# Altium footprint library components.PcbLib: 6 footprints
Each footprint in its own frame and in the unit in brackets; x right, y up, seen from the top. Pads: shape width x height; smd on the part's side, far side on the other; paste and mask are expansions set on the pad; w line width, h text height; cw(c..) or ccw(c..) is an arc to the next point about the centre after c.
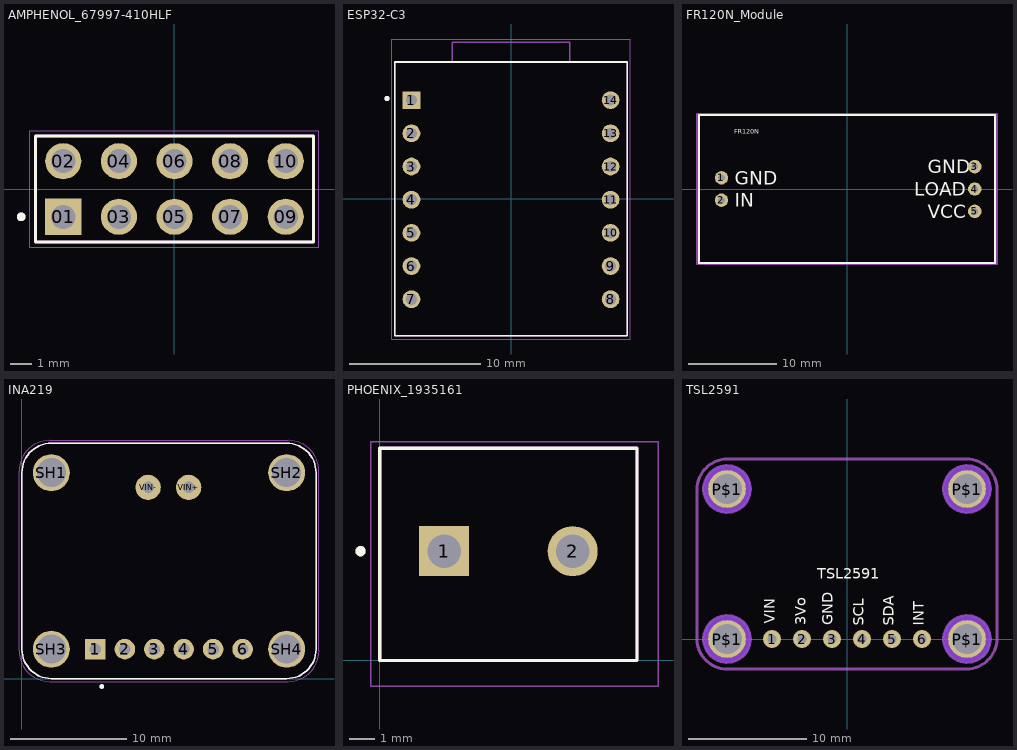
[diagram p0: the footprints below, top view; thin cyan lines are the x and y axes]

## AMPHENOL_67997-410HLF [mm]
pads (10):
  rect 1.65x1.65 hole 1.1: 01(-5.08,-1.27)
  round 1.65 hole 1.1: 02(-5.08,1.27) 03(-2.54,-1.27) 04(-2.54,1.27) 05(0,-1.27) 06(0,1.27) 07(2.54,-1.27) 08(2.54,1.27) 09(5.08,-1.27) 10(5.08,1.27)
Top Overlay:
  circle w0.2: c-7,-1.27 r0.1
  lines w0.127: -6.35,-2.415 -6.35,2.415 6.35,2.415 6.35,-2.415 -6.35,-2.415
Mechanical 13:
  circle w0.2: c-7,-1.27 r0.1
  lines w0.127: -6.35,-2.415 -6.35,2.415 ; -6.35,-2.415 6.35,-2.415 ; -6.35,-2.415 -6.35,2.415 ; -6.35,2.415 6.35,2.415 ; -6.35,2.415 6.35,2.415 ; 6.35,-2.415 6.35,2.415 ; 6.35,-2.415 6.35,2.415
Mechanical 15:
  lines w0.05: -6.6,-2.665 -6.6,2.665 6.6,2.665 6.6,-2.665 -6.6,-2.665
3D body "step_temp.STEP": height 8.38, standoff -3.05, extent -6.35,-2.415 6.35,2.415

## ESP32-C3 [mil]
pads (14):
  rect 53.46x53.46 hole 33.46: 1(-300,297.5)
  round 53.46 hole 33.46: 2(-300,197.5) 3(-300,97.5) 4(-300,-2.5) 5(-300,-102.5) 6(-300,-202.5) 7(-300,-302.5) 8(300,-302.5) 9(300,-202.5) 10(300,-102.5) 11(300,-2.5) 12(300,97.5) 13(300,197.5) 14(300,297.5)
Top Overlay:
  circle w7.87: c-374.02,302.5 r3.94
  lines w5: -350,-412.5 350,-412.5 350,412.5 -350,412.5 -350,-412.5
Mechanical 4:
  circle w7.87: c-374.02,302.5 r3.94
  circle w7.87: c-374.02,302.5 r3.94
  lines w5: -350,-412.5 350,-412.5 ; -350,-412.5 -350,412.5 ; -350,-412.5 350,-412.5 ; -350,-412.5 -350,412.5 ; -350,412.5 -177.17,412.5 ; -350,412.5 -177.17,412.5 ; -177.17,412.5 -177.17,471.95 ; -177.17,412.5 177.17,412.5 ; -177.17,412.5 -177.17,471.95 ; -177.17,412.5 177.17,412.5 ; -177.17,471.95 177.17,471.95 ; -177.17,471.95 177.17,471.95 ; 177.17,412.5 177.17,471.95 ; 177.17,412.5 350,412.5 ; 177.17,412.5 177.17,471.95 ; 177.17,412.5 350,412.5 ; 350,-412.5 350,412.5 ; 350,-412.5 350,412.5
Mechanical 16:
  lines w1.97: -359.84,-422.34 359.84,-422.34 359.84,481.79 -359.84,481.79 -359.84,-422.34
3D body "ESP32-C3.STEP": height 165.75, standoff 0, extent -350,-472.5 350,411.87

## FR120N_Module [mil]
pads (5):
  round 60 hole 30: 1(-560,50) 2(-560,-50) 3(570,100) 4(570,0) 5(570,-100)
Top Overlay:
  lines w10: -660,-330 -660,330 660,330 660,-330 -660,-330
  text "FR120N" at -503.94,246.06 h20.63
  text "VCC" at 360,-130 h60
  text "LOAD" at 300,-30 h60
  text "GND" at 360,70 h60
  text "IN" at -500,-80 h60
  text "GND" at -500,20 h60
Mechanical 1:
  lines w10: -669.29,-334.65 -669.29,334.65 669.29,334.65 669.29,-334.65 -669.29,-334.65

## INA219 [mm]
pads (12):
  rect 1.778x1.778 / inner round 1.778 / far side rect 1.778x1.778 hole 1: 1(6.35,2.54)
  round 1.778 hole 1: 2(8.89,2.54) 3(11.43,2.54) 4(13.97,2.54) 5(16.51,2.54) 6(19.05,2.54)
  round 3.2 hole 2.5: SH1(2.54,17.78) SH2(22.86,17.78) SH3(2.54,2.54) SH4(22.86,2.54)
  round 2.184 hole 1: VIN+(14.4,16.51) VIN-(10.9,16.51)
Top Overlay:
  circle w0.2: c6.9,-0.68 r0.1
  lines w0.127: 0,2.54 ccw(c2.54,2.54) 2.54,0 22.86,0 ccw(c22.86,2.54) 25.4,2.54 25.4,17.78 ccw(c22.86,17.78) 22.86,20.32 2.54,20.32 ccw(c2.54,17.78) 0,17.78 0,2.54
Mechanical 13:
  circle w0.2: c6.9,-0.68 r0.1
  lines w0.127: 0,2.54 ccw(c2.54,2.54) 2.54,0 22.86,0 ccw(c22.86,2.54) 25.4,2.54 25.4,17.78 ccw(c22.86,17.78) 22.86,20.32 2.54,20.32 ccw(c2.54,17.78) 0,17.78 0,2.54
Mechanical 15:
  lines w0.05: -0.25,2.415 ccw(c2.415,2.415) 2.415,-0.25 22.985,-0.25 ccw(c22.985,2.415) 25.65,2.415 25.65,17.9 ccw(c22.98,17.9) 22.98,20.57 2.42,20.57 ccw(c2.42,17.9) -0.25,17.9 -0.25,2.415
3D body "step_temp.STEP": height 4.47, standoff -0.05, extent 0,0 25.4,20.32

## PHOENIX_1935161 [mm]
height 11.45
pads (2):
  rect 1.95x1.95 / inner round 1.95 / far side rect 1.95x1.95 hole 1.3: 1(2.5,4.25)
  round 1.95 hole 1.3: 2(7.5,4.25)
Top Overlay:
  circle w0.2: c-0.75,4.25 r0.1
  lines w0.127: 0,0 0,8.25 10,8.25 10,0 0,0
Mechanical 13:
  circle w0.2: c-0.75,4.25 r0.1
  lines w0.127: 0,0 0,8.25 10,8.25 10,0 0,0
Mechanical 15:
  lines w0.05: -0.35,-1 10.82,-1 10.82,8.5 -0.35,8.5 -0.35,-1
3D body "step_temp.STEP": height 11.55, standoff -3.7, extent -0.1,-0.75 10.57,8.25

## TSL2591 [mil]
pads (10):
  round 60 hole 30: 1(-250,0) 2(-150,0) 3(-50,0) 4(50,0) 5(150,0) 6(250,0)
  round 125.98 hole 98.43: P$1(-400,0) P$1(-400,500) P$1(400,0) P$1(400,500)
Top Layer keep-out:
  circle w80: c400,500 r39.37
  circle w80: c400,500 r39.37
  circle w80: c-400,500 r39.37
  circle w80: c-400,500 r39.37
  circle w80: c400,0 r39.37
  circle w80: c400,0 r39.37
  circle w80: c-400,0 r39.37
  circle w80: c-400,0 r39.37
Bottom Layer keep-out:
  circle w80: c400,500 r39.37
  circle w80: c400,500 r39.37
  circle w80: c-400,500 r39.37
  circle w80: c-400,500 r39.37
  circle w80: c400,0 r39.37
  circle w80: c400,0 r39.37
  circle w80: c-400,0 r39.37
  circle w80: c-400,0 r39.37
Top Overlay:
  text "INT" at 268.02,44.16 h60
  text "SDA" at 167.35,44.16 h60
  text "SCL" at 67.35,44.16 h60
  text "GND" at -35.49,46.37 h60
  text "3Vo" at -125.49,46.37 h60
  text "VIN" at -229.33,50.05 h60
  text "TSL2591" at -100,190 h60
Mechanical 1:
  lines w10: 500,90 500,2.43 ; 500,2.43 cw(c397.57,2.43) 397.57,-100 350,-100 -400,-100 cw(c-400,0) -500,0 -500,100 -500,497.57 cw(c-397.57,497.57) -397.57,600 -360,600 370,600 397.57,600 cw(c397.57,497.57) 500,497.57 500,2.43
Mechanical 7:
  circle w8: c400,500 r78.74
  circle w8: c-400,500 r78.74
  circle w8: c400,0 r78.74
  circle w8: c-400,0 r78.74
3D body: height 150, standoff 0, extent 320.25,420.25 479.75,579.75
3D body: height 150, standoff 0, extent 320.25,420.25 479.75,579.75
3D body: height 50, standoff 0, extent 336.71,436.71 463.29,563.29
3D body: height 150, standoff 0, extent -479.75,420.25 -320.25,579.75
3D body: height 150, standoff 0, extent -479.75,420.25 -320.25,579.75
3D body: height 50, standoff 0, extent -463.29,436.71 -336.71,563.29
3D body: height 150, standoff 0, extent 320.25,-79.75 479.75,79.75
3D body: height 150, standoff 0, extent 320.25,-79.75 479.75,79.75
3D body: height 50, standoff 0, extent 336.71,-63.29 463.29,63.29
3D body: height 150, standoff 0, extent -479.75,-79.75 -320.25,79.75
3D body: height 150, standoff 0, extent -479.75,-79.75 -320.25,79.75
3D body: height 50, standoff 0, extent -463.29,-63.29 -336.71,63.29
3D body "TSL2591.stp": height 165.35, standoff 0, extent -500,-100 500,600